# Altium footprint library INDP128122X60N.PcbLib: 1 footprints
Each footprint in its own frame and in the unit in brackets; x right, y up, seen from the top. Pads: shape width x height; smd on the part's side, far side on the other; paste and mask are expansions set on the pad; w line width, h text height; cw(c..) or ccw(c..) is an arc to the next point about the centre after c.
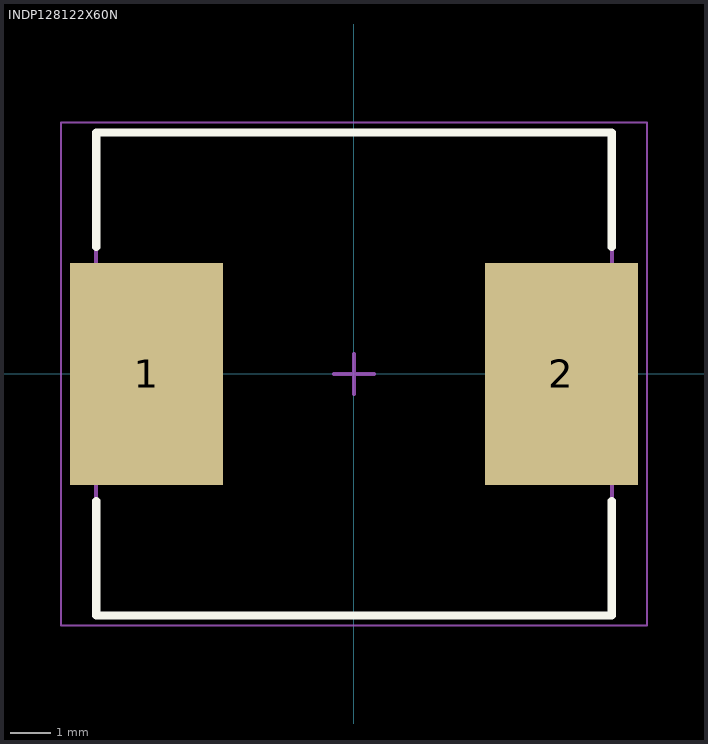
[diagram p0: the footprint, top view; thin cyan lines are the x and y axes]

## INDP128122X60N [mm] "Precision Wire Wound Inductor, 2-Leads, Body 12,80x12,15mm, IPC Medium Density"
height 6
pads (2):
  rect 3.8x5.5 smd: 1(-5.15,0) 2(5.15,0)
Top Overlay:
  lines w0.2: -6.4,-3.15 -6.4,-6 6.4,-6 6.4,-3.15 ; -6.4,3.15 -6.4,6 6.4,6 6.4,3.15
Mechanical 13:
  lines w0.1: -6.4,-6 6.4,-6 6.4,6 -6.4,6 -6.4,-6
Mechanical 15:
  lines w0.05: -7.275,-6.25 7.275,-6.25 7.275,6.25 -7.275,6.25 -7.275,-6.25
  lines w0.1: -0.5,0 0.5,0 ; 0,-0.5 0,0.5
3D body: height 6, standoff 0, extent -6.4,-6 6.4,6